# Altium integrated library lsi-computer-systems.IntLib: 6 symbols
Pins are listed as number, name and electrical type; pins without a type are passive.

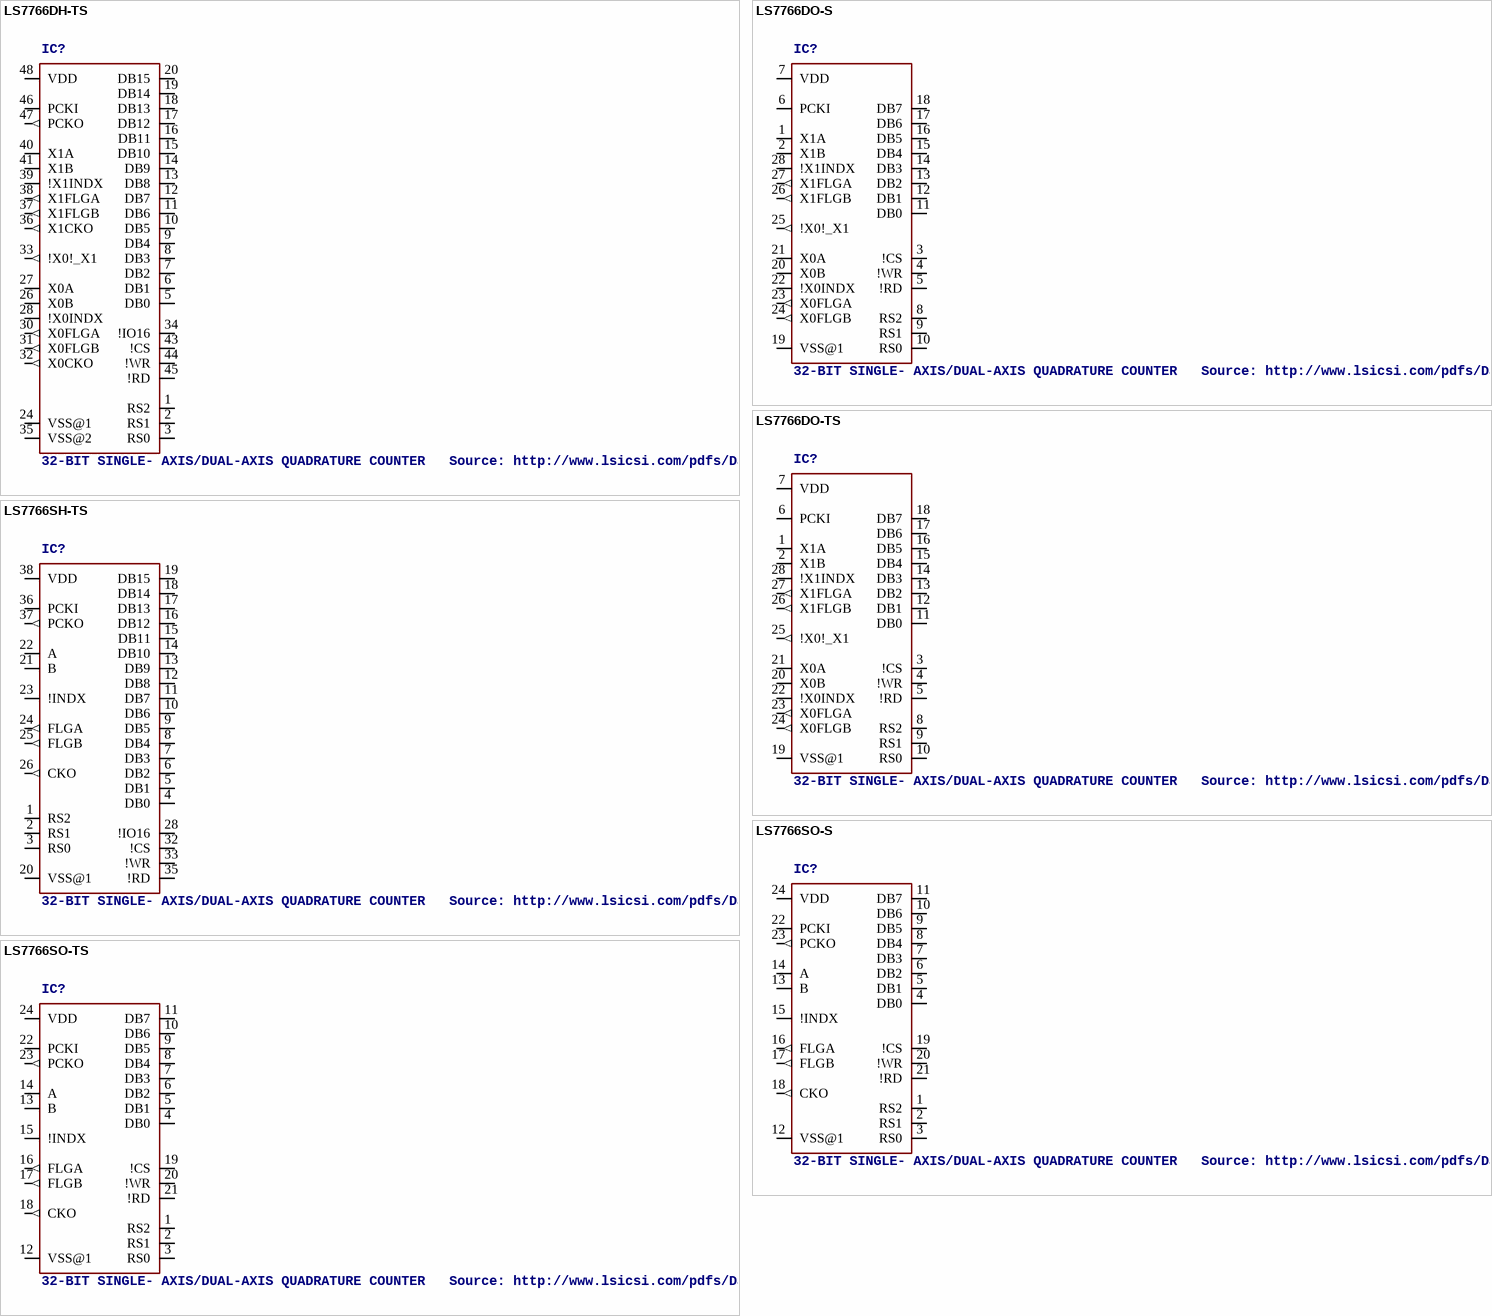
[diagram p0: symbols LS7766DH-TS to LS7766SO-TS]

## LS7766DH-TS
designator IC?, comment 32-BIT SINGLE- AXIS/DUAL-AXIS QUADRATURE COUNTER   Source: http://www.lsicsi.com/pdfs/Data_Sheets/LS7766.pdf
footprint TSSOP48
pins: 1 RS2, 2 RS1, 3 RS0, 5 DB0 (hiz), 6 DB1 (hiz), 7 DB2 (hiz), 8 DB3 (hiz), 9 DB4 (hiz), 10 DB5 (hiz), 11 DB6 (hiz), 12 DB7 (hiz), 13 DB8 (hiz), 14 DB9 (hiz), 15 DB10 (hiz), 16 DB11 (hiz), 17 DB12 (hiz), 18 DB13 (hiz), 19 DB14 (hiz), 20 DB15 (hiz), 24 VSS@1 (power), 26 X0B, 27 X0A, 28 !X0INDX, 30 X0FLGA (out), 31 X0FLGB (out), 32 X0CKO (out), 33 !X0!_X1 (out), 34 !IO16, 35 VSS@2 (power), 36 X1CKO (out), 37 X1FLGB (out), 38 X1FLGA (out), 39 !X1INDX, 40 X1A, 41 X1B, 43 !CS, 44 !WR, 45 !RD, 46 PCKI, 47 PCKO (out), 48 VDD (power)

## LS7766DO-S
designator IC?, comment 32-BIT SINGLE- AXIS/DUAL-AXIS QUADRATURE COUNTER   Source: http://www.lsicsi.com/pdfs/Data_Sheets/LS7766.pdf
footprint SOIC28L
pins: 1 X1A, 2 X1B, 3 !CS, 4 !WR, 5 !RD, 6 PCKI, 7 VDD (power), 8 RS2, 9 RS1, 10 RS0, 11 DB0 (hiz), 12 DB1 (hiz), 13 DB2 (hiz), 14 DB3 (hiz), 15 DB4 (hiz), 16 DB5 (hiz), 17 DB6 (hiz), 18 DB7 (hiz), 19 VSS@1 (power), 20 X0B, 21 X0A, 22 !X0INDX, 23 X0FLGA (out), 24 X0FLGB (out), 25 !X0!_X1 (out), 26 X1FLGB (out), 27 X1FLGA (out), 28 !X1INDX

## LS7766DO-TS
designator IC?, comment 32-BIT SINGLE- AXIS/DUAL-AXIS QUADRATURE COUNTER   Source: http://www.lsicsi.com/pdfs/Data_Sheets/LS7766.pdf
footprint TSSOP28
pins: 1 X1A, 2 X1B, 3 !CS, 4 !WR, 5 !RD, 6 PCKI, 7 VDD (power), 8 RS2, 9 RS1, 10 RS0, 11 DB0 (hiz), 12 DB1 (hiz), 13 DB2 (hiz), 14 DB3 (hiz), 15 DB4 (hiz), 16 DB5 (hiz), 17 DB6 (hiz), 18 DB7 (hiz), 19 VSS@1 (power), 20 X0B, 21 X0A, 22 !X0INDX, 23 X0FLGA (out), 24 X0FLGB (out), 25 !X0!_X1 (out), 26 X1FLGB (out), 27 X1FLGA (out), 28 !X1INDX

## LS7766SH-TS
designator IC?, comment 32-BIT SINGLE- AXIS/DUAL-AXIS QUADRATURE COUNTER   Source: http://www.lsicsi.com/pdfs/Data_Sheets/LS7766.pdf
footprint TSSOP38
pins: 1 RS2, 2 RS1, 3 RS0, 4 DB0 (hiz), 5 DB1 (hiz), 6 DB2 (hiz), 7 DB3 (hiz), 8 DB4 (hiz), 9 DB5 (hiz), 10 DB6 (hiz), 11 DB7 (hiz), 12 DB8 (hiz), 13 DB9 (hiz), 14 DB10 (hiz), 15 DB11 (hiz), 16 DB12 (hiz), 17 DB13 (hiz), 18 DB14 (hiz), 19 DB15 (hiz), 20 VSS@1 (power), 21 B, 22 A, 23 !INDX, 24 FLGA (out), 25 FLGB (out), 26 CKO (out), 28 !IO16, 32 !CS, 33 !WR, 35 !RD, 36 PCKI, 37 PCKO (out), 38 VDD (power)

## LS7766SO-S
designator IC?, comment 32-BIT SINGLE- AXIS/DUAL-AXIS QUADRATURE COUNTER   Source: http://www.lsicsi.com/pdfs/Data_Sheets/LS7766.pdf
footprint SOIC24L
pins: 1 RS2, 2 RS1, 3 RS0, 4 DB0 (hiz), 5 DB1 (hiz), 6 DB2 (hiz), 7 DB3 (hiz), 8 DB4 (hiz), 9 DB5 (hiz), 10 DB6 (hiz), 11 DB7 (hiz), 12 VSS@1 (power), 13 B, 14 A, 15 !INDX, 16 FLGA (out), 17 FLGB (out), 18 CKO (out), 19 !CS, 20 !WR, 21 !RD, 22 PCKI, 23 PCKO (out), 24 VDD (power)

## LS7766SO-TS
designator IC?, comment 32-BIT SINGLE- AXIS/DUAL-AXIS QUADRATURE COUNTER   Source: http://www.lsicsi.com/pdfs/Data_Sheets/LS7766.pdf
footprint TSSOP24
pins: 1 RS2, 2 RS1, 3 RS0, 4 DB0 (hiz), 5 DB1 (hiz), 6 DB2 (hiz), 7 DB3 (hiz), 8 DB4 (hiz), 9 DB5 (hiz), 10 DB6 (hiz), 11 DB7 (hiz), 12 VSS@1 (power), 13 B, 14 A, 15 !INDX, 16 FLGA (out), 17 FLGB (out), 18 CKO (out), 19 !CS, 20 !WR, 21 !RD, 22 PCKI, 23 PCKO (out), 24 VDD (power)